# EAGLE library part SKRHABE010 (library badger)
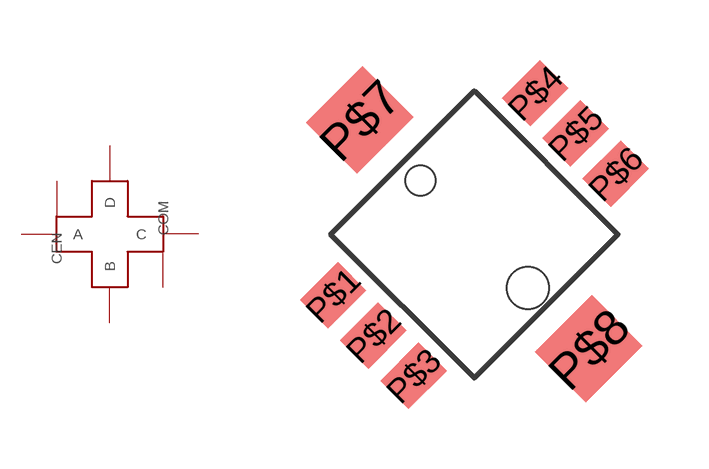
[diagram p0: symbol with the pads of SKRHABE010; footprint SKRHABE010]

Designator prefix -

## SKRHABE010  [SKRHABE010]
P$1  A
P$2  CEN
P$3  C
P$4  B
P$5  COM  pwr
P$6  D
P$7  COM  pwr
P$8  COM  pwr

## Footprint SKRHABE010 (pad centres in mm)
ALPS SKRHABE010
smd 1.35 x 1 rotated 45: P$1 -3.536,-1.52; P$2 -2.528,-2.528; P$3 -1.52,-3.536; P$4 1.52,3.536; P$5 2.528,2.528; P$6 3.536,1.52
smd 2 x 1.8 rotated 45: P$7 -2.864,2.864; P$8 2.864,-2.864
hole 0.75 at -1.343,1.343
hole 1.05 at 1.343,-1.343